# Altium schematic symbol library TS5A3153DCUR.SchLib: 1 symbol
Pins are listed as number, name and electrical type; pins without a type are passive.

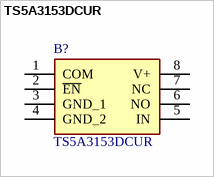
[diagram p0: symbol TS5A3153DCUR]

## TS5A3153DCUR
designator B?
1-Ohm SPDT Analog Switch 5-V/3.3-V Single-Channel 2:1 Multiplexer/Demultiplexer; Manufacturer_Name: Texas Instruments; Geometry.Height: 0.9mm; Mouser Part Number: 595-TS5A3153DCUR; Mouser Price/Stock: https://www.mouser.co.uk/ProductDetail/Texas-Instruments/TS5A3153DCUR?qs=BBezV1N05%2FshGMJPJGj1vg%3D%3D; Manufacturer_Part_Number: TS5A3153DCUR; Datasheet Link: http://www.ti.com/lit/gpn/ts5a3153
footprint SOP50P310X90-8N
pins: 1 COM, 2 ~{EN}, 3 GND_1, 4 GND_2, 5 IN, 6 NO, 7 NC, 8 V+